# Altium footprint library 封装库.PcbLib: 324 footprints (part 12 of 21)
Each footprint in its own frame and in the unit in brackets; x right, y up, seen from the top. Pads: shape width x height; smd on the part's side, far side on the other; paste and mask are expansions set on the pad; w line width, h text height; cw(c..) or ccw(c..) is an arc to the next point about the centre after c.
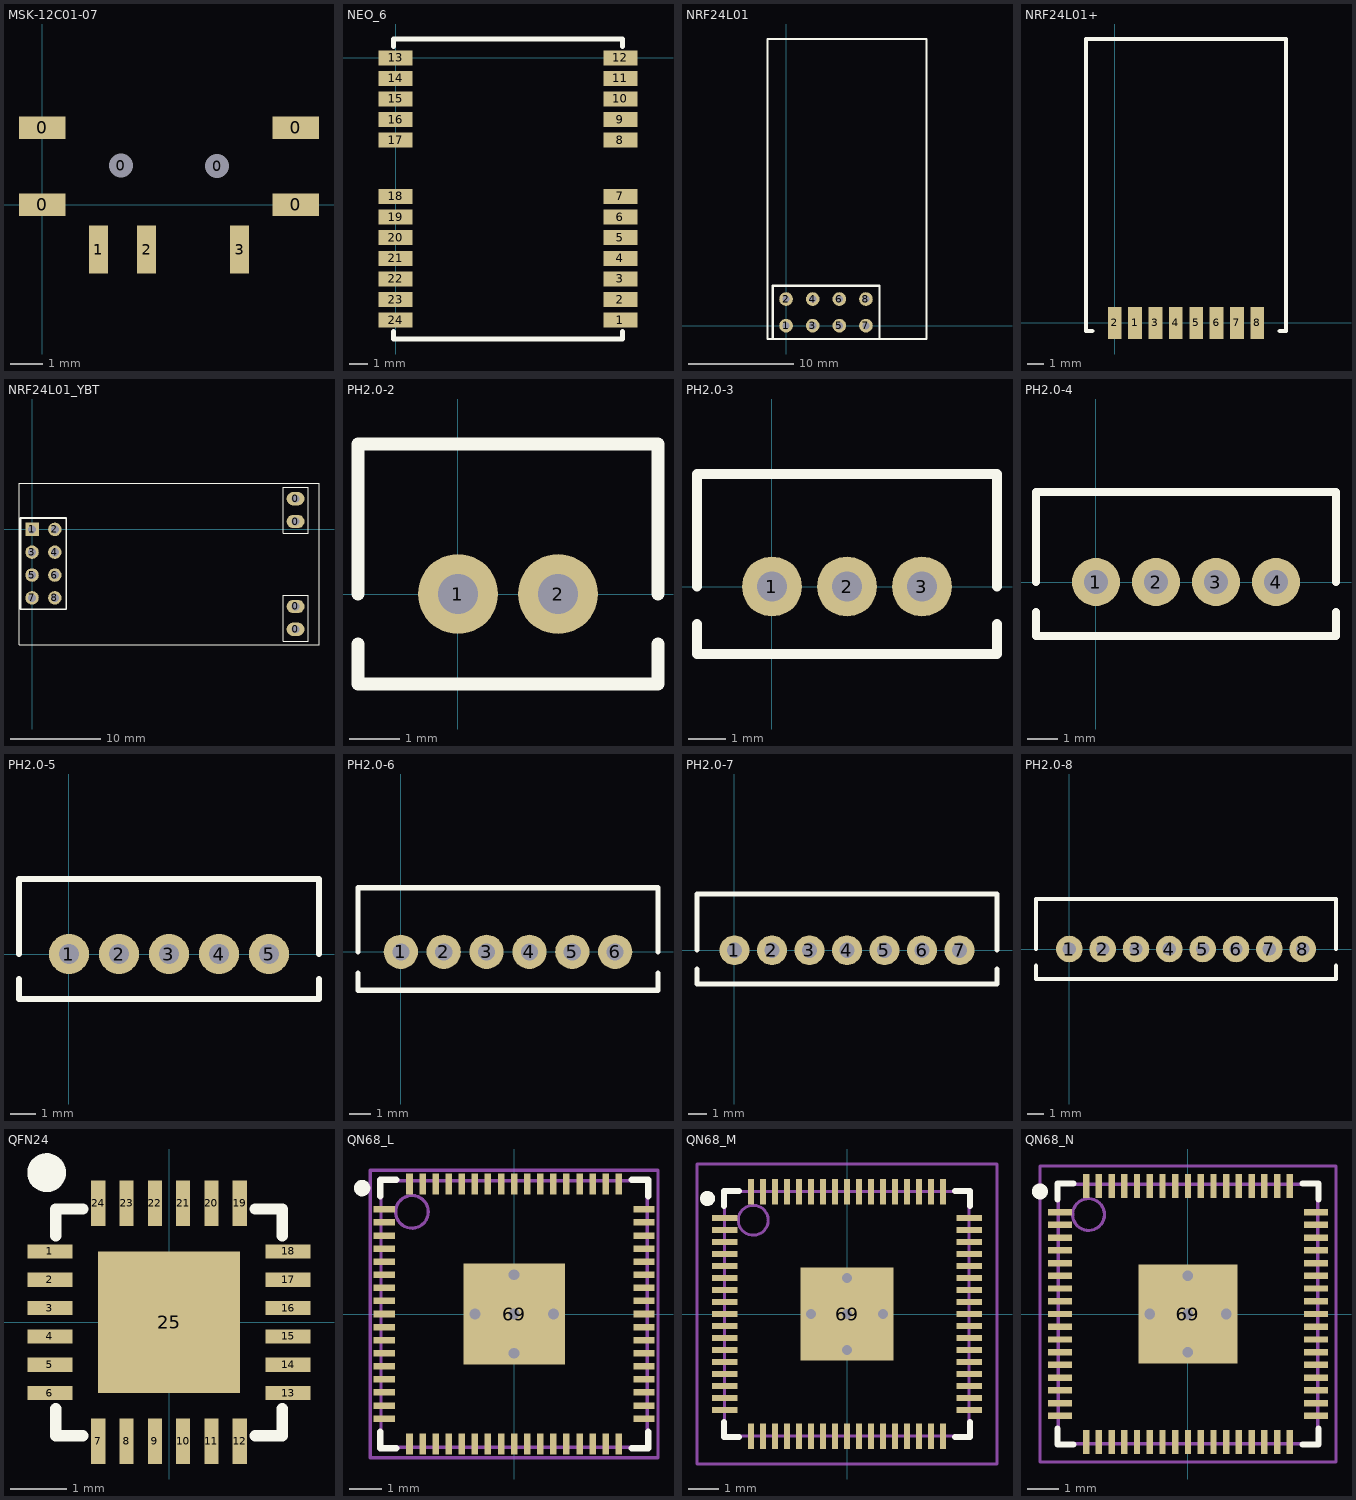
[diagram p11: the footprints below, top view; thin cyan lines are the x and y axes]

## MSK-12C01-07 [mm]
pads (9):
  rect 1.45x0.7 smd: 0(0,0) 0(0,2.4) 0(7.9,0) 0(7.9,2.4)
  round 0.6 hole 0.75 unplated: 0(2.45,1.219) 0(5.45,1.2)
  rect 0.6x1.5 smd: 1(1.75,-1.4) 2(3.25,-1.4) 3(6.15,-1.4)

## NEO_6 [mm]
pads (24):
  rect 1.8x0.8 smd: 1(12,-14) 2(12,-12.9) 3(12,-11.8) 4(12,-10.7) 5(12,-9.6) 6(12,-8.5) 7(12,-7.4) 8(12,-4.4) 9(12,-3.3) 10(12,-2.2) 11(12,-1.1) 12(12,0) 13(0,0) 14(0,-1.1) 15(0,-2.2) 16(0,-3.3) 17(0,-4.4) 18(0,-7.4) 19(0,-8.5) 20(0,-9.6) 21(0,-10.7) 22(0,-11.8) 23(0,-12.9) 24(0,-14)
Top Overlay:
  lines w0.254: -0.1,-14.6 -0.1,-15 12.1,-15 12.1,-14.6 ; -0.1,0.6 -0.1,1 12.1,1 12.1,0.6

## NRF24L01 [mm]
pads (8):
  round 1.3 hole 0.7: 1(0,0) 2(0,2.54) 3(2.54,0) 4(2.54,2.54) 5(5.08,0) 6(5.08,2.54) 7(7.62,0) 8(7.62,2.54)
Top Overlay:
  lines w0.2: -1.27,-1.27 -1.27,3.81 8.89,3.81 8.89,-1.27 ; -1.77,-1.27 13.39,-1.27 13.39,27.33 -1.77,27.33 -1.77,-1.27

## NRF24L01+ [mm]
pads (8):
  rect 0.85x2 smd: 1(1.27,0) 2(0,0) 3(2.54,0) 4(3.81,0) 5(5.08,0) 6(6.35,0) 7(7.62,0) 8(8.89,0)
Top Overlay:
  lines w0.254: -1.4,-0.5 -1.8,-0.5 -1.8,17.7 10.69,17.7 10.69,-0.5 10.29,-0.5

## NRF24L01_YBT [mm] "亿佰特E01-ML01DP5"
pads (12):
  oval 2x1.5 hole 0.85: 0(29.33,-11.12) 0(29.33,-8.58) 0(29.33,0.88) 0(29.33,3.42)
  rect 1.5x1.5 hole 0.9: 1(0,0)
  round 1.5 hole 0.9: 2(2.54,0) 3(0,-2.54) 4(2.54,-2.54) 5(0,-5.08) 6(2.54,-5.08) 7(0,-7.62) 8(2.54,-7.62)
Top Overlay:
  lines w0.1: -1.45,-12.85 31.94,-12.85 31.94,5.15 -1.45,5.15 -1.45,-12.85
  lines w0.127: 27.95,-12.427 30.75,-12.427 30.75,-7.31 27.95,-7.31 27.95,-12.427 ; 27.95,-0.427 30.75,-0.427 30.75,4.69 27.95,4.69 27.95,-0.427
  lines w0.2: -1.27,-8.89 3.81,-8.89 3.81,1.27 -1.27,1.27 -1.27,-8.89

## PH2.0-2 [mm]
pads (2):
  round 1.6 hole 0.8 unplated: 1(0,0) 2(2,0)
Top Overlay:
  lines w0.254: -2,-1 -2,-1.8 4,-1.8 4,-1 ; -2,0 -2,3 4,3 4,0

## PH2.0-3 [mm]
pads (3):
  round 1.6 hole 0.8 unplated: 1(0,0) 2(2,0) 3(4,0)
Top Overlay:
  lines w0.254: -2,-1 -2,-1.8 6,-1.8 6,-1 ; -2,0 -2,3 6,3 6,0

## PH2.0-4 [mm]
pads (4):
  round 1.6 hole 0.8 unplated: 1(0,0) 2(2,0) 3(4,0) 4(6,0)
Top Overlay:
  lines w0.254: -2,-1 -2,-1.8 8,-1.8 8,-1 ; -2,0 -2,3 8,3 8,0

## PH2.0-5 [mm]
pads (5):
  round 1.6 hole 0.8 unplated: 1(0,0) 2(2,0) 3(4,0) 4(6,0) 5(8,0)
Top Overlay:
  lines w0.254: -2,-1 -2,-1.8 10,-1.8 10,-1 ; -2,0 -2,3 10,3 10,0

## PH2.0-6 [mm]
pads (6):
  round 1.6 hole 0.8 unplated: 1(0,0) 2(2,0) 3(4,0) 4(6,0) 5(8,0) 6(10,0)
Top Overlay:
  lines w0.254: -2,-1 -2,-1.8 12,-1.8 12,-1 ; -2,0 -2,3 12,3 12,0

## PH2.0-7 [mm]
pads (7):
  round 1.6 hole 0.8 unplated: 1(0,0) 2(2,0) 3(4,0) 4(6,0) 5(8,0) 6(10,0) 7(12,0)
Top Overlay:
  lines w0.254: -2,-1 -2,-1.8 14,-1.8 14,-1 ; -2,0 -2,3 14,3 14,0

## PH2.0-8 [mm]
pads (8):
  round 1.6 hole 0.8 unplated: 1(0,0) 2(2,0) 3(4,0) 4(6,0) 5(8,0) 6(10,0) 7(12,0) 8(14,0)
Top Overlay:
  lines w0.254: -2,-1 -2,-1.8 16,-1.8 16,-1 ; -2,0 -2,3 16,3 16,0

## QFN24 [mm]
pads (25):
  rect 0.8x0.25 smd: 1(-2.101,1.25) 2(-2.101,0.75) 3(-2.101,0.25) 4(-2.101,-0.25) 5(-2.101,-0.75) 6(-2.101,-1.25) 13(2.101,-1.25) 14(2.101,-0.75) 15(2.101,-0.25) 16(2.101,0.25) 17(2.101,0.75) 18(2.101,1.25)
  rect 0.25x0.8 smd: 7(-1.25,-2.101) 8(-0.75,-2.101) 9(-0.25,-2.101) 10(0.25,-2.101) 11(0.75,-2.101) 12(1.25,-2.101) 19(1.25,2.101) 20(0.75,2.101) 21(0.25,2.101) 22(-0.25,2.101) 23(-0.75,2.101) 24(-1.25,2.101)
  rect 2.5x2.5 smd: 25(0,0)
Top Overlay:
  circle w0.381: c-2.159,2.642 r0.152
  lines w0.2: -2,-1.525 -2,-2 -1.525,-2 ; -2,1.525 -2,2 -1.525,2 ; 1.525,-2 2,-2 2,-1.525 ; 1.525,2 2,2 2,1.525

## QN68_L [mm] "QFN, 68-Leads, Body 8x8 mm, Pitch 0.4mm, IPC High Density"
height 1
pads (69):
  rect 0.65x0.2 smd: 1(-3.975,3.2) 2(-3.975,2.8) 3(-3.975,2.4) 4(-3.975,2) 5(-3.975,1.6) 6(-3.975,1.2) 7(-3.975,0.8) 8(-3.975,0.4) 9(-3.975,0) 10(-3.975,-0.4) 11(-3.975,-0.8) 12(-3.975,-1.2) 13(-3.975,-1.6) 14(-3.975,-2) 15(-3.975,-2.4) 16(-3.975,-2.8) 17(-3.975,-3.2) 35(3.975,-3.2) 36(3.975,-2.8) 37(3.975,-2.4) 38(3.975,-2) 39(3.975,-1.6) 40(3.975,-1.2) 41(3.975,-0.8) 42(3.975,-0.4) 43(3.975,0) 44(3.975,0.4) 45(3.975,0.8) 46(3.975,1.2) 47(3.975,1.6) 48(3.975,2) 49(3.975,2.4) 50(3.975,2.8) 51(3.975,3.2)
  rect 0.2x0.65 smd: 18(-3.2,-3.975) 19(-2.8,-3.975) 20(-2.4,-3.975) 21(-2,-3.975) 22(-1.6,-3.975) 23(-1.2,-3.975) 24(-0.8,-3.975) 25(-0.4,-3.975) 26(0,-3.975) 27(0.4,-3.975) 28(0.8,-3.975) 29(1.2,-3.975) 30(1.6,-3.975) 31(2,-3.975) 32(2.4,-3.975) 33(2.8,-3.975) 34(3.2,-3.975) 52(3.2,3.975) 53(2.8,3.975) 54(2.4,3.975) 55(2,3.975) 56(1.6,3.975) 57(1.2,3.975) 58(0.8,3.975) 59(0.4,3.975) 60(0,3.975) 61(-0.4,3.975) 62(-0.8,3.975) 63(-1.2,3.975) 64(-1.6,3.975) 65(-2,3.975) 66(-2.4,3.975) 67(-2.8,3.975) 68(-3.2,3.975)
  rect 3.1x3.1 smd paste-1.55 mask+0.062: 69(0,0)
via 0,-1.2 diameter 0.66 hole 0.33
via 1.2,0 diameter 0.66 hole 0.33
via 0,0 diameter 0.66 hole 0.33
via -1.2,0 diameter 0.66 hole 0.33
via 0,1.2 diameter 0.66 hole 0.33
Top Overlay:
  circle w0.25: c-4.65,3.85 r0.125
  lines w0.2: -4.1,-3.6 -4.1,-4.1 -3.6,-4.1 ; -4.1,3.6 -4.1,4.1 -3.6,4.1 ; 3.6,-4.1 4.1,-4.1 4.1,-3.6 ; 3.6,4.1 4.1,4.1 4.1,3.6
Top Paste:
  rectangle: 0.1,-1.4 1.4,-0.1
  region: -0.1,-0.1 -1.4,-0.1 -1.4,-1.4 -0.1,-1.4
  region: -0.1,1.4 -1.4,1.4 -1.4,0.1 -0.1,0.1
  rectangle: 0.1,0.1 1.4,1.4
Mechanical 13:
  circle w0.1: c-3.125,3.125 r0.5
  lines w0.1: -4.075,-4.075 -4.075,4.075 4.075,4.075 4.075,-4.075 -4.075,-4.075
Mechanical 15:
  lines w0.1: -0.5,0 0.5,0 ; 0,-0.5 0,0.5 ; -4.4,-4.4 -4.4,4.4 4.4,4.4 4.4,-4.4 -4.4,-4.4
3D body: height 1, standoff 0, extent -4.074,-4.074 4.074,4.074

## QN68_M [mm] "QFN, 68-Leads, Body 8x8 mm, Pitch 0.4mm, IPC Low Density"
height 1
pads (69):
  rect 0.85x0.2 smd: 1(-4.075,3.2) 2(-4.075,2.8) 3(-4.075,2.4) 4(-4.075,2) 5(-4.075,1.6) 6(-4.075,1.2) 7(-4.075,0.8) 8(-4.075,0.4) 9(-4.075,0) 10(-4.075,-0.4) 11(-4.075,-0.8) 12(-4.075,-1.2) 13(-4.075,-1.6) 14(-4.075,-2) 15(-4.075,-2.4) 16(-4.075,-2.8) 17(-4.075,-3.2) 35(4.075,-3.2) 36(4.075,-2.8) 37(4.075,-2.4) 38(4.075,-2) 39(4.075,-1.6) 40(4.075,-1.2) 41(4.075,-0.8) 42(4.075,-0.4) 43(4.075,0) 44(4.075,0.4) 45(4.075,0.8) 46(4.075,1.2) 47(4.075,1.6) 48(4.075,2) 49(4.075,2.4) 50(4.075,2.8) 51(4.075,3.2)
  rect 0.2x0.85 smd: 18(-3.2,-4.075) 19(-2.8,-4.075) 20(-2.4,-4.075) 21(-2,-4.075) 22(-1.6,-4.075) 23(-1.2,-4.075) 24(-0.8,-4.075) 25(-0.4,-4.075) 26(0,-4.075) 27(0.4,-4.075) 28(0.8,-4.075) 29(1.2,-4.075) 30(1.6,-4.075) 31(2,-4.075) 32(2.4,-4.075) 33(2.8,-4.075) 34(3.2,-4.075) 52(3.2,4.075) 53(2.8,4.075) 54(2.4,4.075) 55(2,4.075) 56(1.6,4.075) 57(1.2,4.075) 58(0.8,4.075) 59(0.4,4.075) 60(0,4.075) 61(-0.4,4.075) 62(-0.8,4.075) 63(-1.2,4.075) 64(-1.6,4.075) 65(-2,4.075) 66(-2.4,4.075) 67(-2.8,4.075) 68(-3.2,4.075)
  rect 3.1x3.1 smd paste-1.55 mask+0.062: 69(0,0)
via 0,1.2 diameter 0.66 hole 0.33
via -1.2,0 diameter 0.66 hole 0.33
via 0,0 diameter 0.66 hole 0.33
via 1.2,0 diameter 0.66 hole 0.33
via 0,-1.2 diameter 0.66 hole 0.33
Top Overlay:
  circle w0.25: c-4.65,3.85 r0.125
  lines w0.2: -4.1,-3.6 -4.1,-4.1 -3.6,-4.1 ; -4.1,3.6 -4.1,4.1 -3.6,4.1 ; 3.6,-4.1 4.1,-4.1 4.1,-3.6 ; 3.6,4.1 4.1,4.1 4.1,3.6
Top Paste:
  rectangle: 0.1,0.1 1.4,1.4
  region: -0.1,1.4 -1.4,1.4 -1.4,0.1 -0.1,0.1
  region: -0.1,-0.1 -1.4,-0.1 -1.4,-1.4 -0.1,-1.4
  rectangle: 0.1,-1.4 1.4,-0.1
Mechanical 13:
  circle w0.1: c-3.125,3.125 r0.5
  lines w0.1: -4.075,-4.075 -4.075,4.075 4.075,4.075 4.075,-4.075 -4.075,-4.075
Mechanical 15:
  lines w0.1: -0.5,0 0.5,0 ; 0,-0.5 0,0.5 ; -5,-5 -5,5 5,5 5,-5 -5,-5
3D body: height 1, standoff 0, extent -4.074,-4.074 4.074,4.074

## QN68_N [mm] "QFN, 68-Leads, Body 8x8 mm, Pitch 0.4mm, IPC Medium Density"
height 1
pads (69):
  rect 0.75x0.2 smd: 1(-4.025,3.2) 2(-4.025,2.8) 3(-4.025,2.4) 4(-4.025,2) 5(-4.025,1.6) 6(-4.025,1.2) 7(-4.025,0.8) 8(-4.025,0.4) 9(-4.025,0) 10(-4.025,-0.4) 11(-4.025,-0.8) 12(-4.025,-1.2) 13(-4.025,-1.6) 14(-4.025,-2) 15(-4.025,-2.4) 16(-4.025,-2.8) 17(-4.025,-3.2) 35(4.025,-3.2) 36(4.025,-2.8) 37(4.025,-2.4) 38(4.025,-2) 39(4.025,-1.6) 40(4.025,-1.2) 41(4.025,-0.8) 42(4.025,-0.4) 43(4.025,0) 44(4.025,0.4) 45(4.025,0.8) 46(4.025,1.2) 47(4.025,1.6) 48(4.025,2) 49(4.025,2.4) 50(4.025,2.8) 51(4.025,3.2)
  rect 0.2x0.75 smd: 18(-3.2,-4.025) 19(-2.8,-4.025) 20(-2.4,-4.025) 21(-2,-4.025) 22(-1.6,-4.025) 23(-1.2,-4.025) 24(-0.8,-4.025) 25(-0.4,-4.025) 26(0,-4.025) 27(0.4,-4.025) 28(0.8,-4.025) 29(1.2,-4.025) 30(1.6,-4.025) 31(2,-4.025) 32(2.4,-4.025) 33(2.8,-4.025) 34(3.2,-4.025) 52(3.2,4.025) 53(2.8,4.025) 54(2.4,4.025) 55(2,4.025) 56(1.6,4.025) 57(1.2,4.025) 58(0.8,4.025) 59(0.4,4.025) 60(0,4.025) 61(-0.4,4.025) 62(-0.8,4.025) 63(-1.2,4.025) 64(-1.6,4.025) 65(-2,4.025) 66(-2.4,4.025) 67(-2.8,4.025) 68(-3.2,4.025)
  rect 3.1x3.1 smd paste-1.55 mask+0.062: 69(0,0)
via 0,1.2 diameter 0.66 hole 0.33
via -1.2,0 diameter 0.66 hole 0.33
via 0,0 diameter 0.66 hole 0.33
via 1.2,0 diameter 0.66 hole 0.33
via 0,-1.2 diameter 0.66 hole 0.33
Top Overlay:
  circle w0.25: c-4.65,3.85 r0.125
  lines w0.2: -4.1,-3.6 -4.1,-4.1 -3.6,-4.1 ; -4.1,3.6 -4.1,4.1 -3.6,4.1 ; 3.6,-4.1 4.1,-4.1 4.1,-3.6 ; 3.6,4.1 4.1,4.1 4.1,3.6
Top Paste:
  rectangle: 0.1,0.1 1.4,1.4
  region: -0.1,1.4 -1.4,1.4 -1.4,0.1 -0.1,0.1
  region: -0.1,-0.1 -1.4,-0.1 -1.4,-1.4 -0.1,-1.4
  rectangle: 0.1,-1.4 1.4,-0.1
Mechanical 13:
  circle w0.1: c-3.125,3.125 r0.5
  lines w0.1: -4.075,-4.075 -4.075,4.075 4.075,4.075 4.075,-4.075 -4.075,-4.075
Mechanical 15:
  lines w0.1: -0.5,0 0.5,0 ; 0,-0.5 0,0.5 ; -4.65,-4.65 -4.65,4.65 4.65,4.65 4.65,-4.65 -4.65,-4.65
3D body: height 1, standoff 0, extent -4.074,-4.074 4.074,4.074